# Altium footprint library DIP850W50P254L2000H510Q16N.PcbLib: 1 footprints
Each footprint in its own frame and in the unit in brackets; x right, y up, seen from the top. Pads: shape width x height; smd on the part's side, far side on the other; paste and mask are expansions set on the pad; w line width, h text height; cw(c..) or ccw(c..) is an arc to the next point about the centre after c.
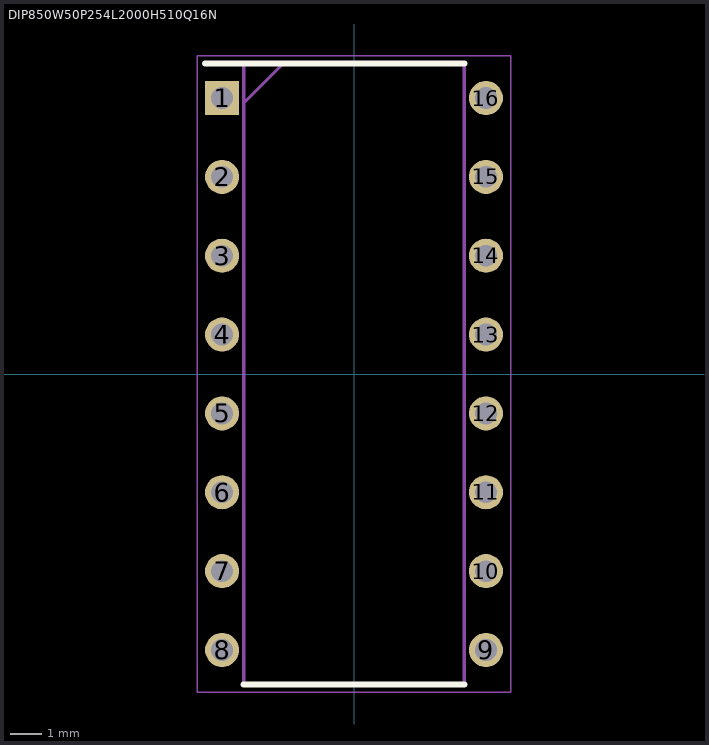
[diagram p0: the footprint, top view; thin cyan lines are the x and y axes]

## DIP850W50P254L2000H510Q16N [mm]
pads (16):
  rect 1.1x1.1 / inner round 1.1 / far side rect 1.1x1.1 hole 0.7: 1(-4.25,8.89)
  round 1.1 hole 0.7: 2(-4.25,6.35) 3(-4.25,3.81) 4(-4.25,1.27) 5(-4.25,-1.27) 6(-4.25,-3.81) 7(-4.25,-6.35) 8(-4.25,-8.89) 9(4.25,-8.89) 10(4.25,-6.35) 11(4.25,-3.81) 12(4.25,-1.27) 13(4.25,1.27) 14(4.25,3.81) 15(4.25,6.35) 16(4.25,8.89)
Top Overlay:
  lines w0.2: -4.8,10 3.55,10 ; -3.55,-10 3.55,-10
Mechanical 15:
  lines w0.1: -3.55,8.73 -2.28,10 ; -3.55,-10 3.55,-10 3.55,10 -3.55,10 -3.55,-10
Mechanical 20:
  lines w0.05: -5.05,-10.25 5.05,-10.25 5.05,10.25 -5.05,10.25 -5.05,-10.25